# EAGLE library part MICRODB25-BOARD-EDGE (library RPi-Parts)
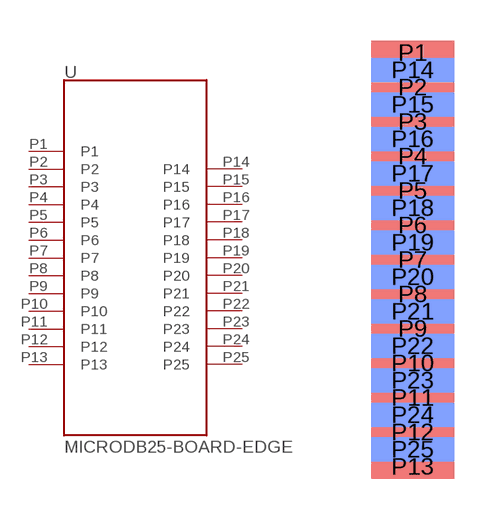
[diagram p5: symbol with the pads of MICRODB25-BOARD-EDGE; footprint MICRODB25-BOARD-EDGE]

Designator prefix -

## MICRODB25-BOARD-EDGE  [MICRODB25-BOARD-EDGE]
P1  P1
P2  P2
P3  P3
P4  P4
P5  P5
P6  P6
P7  P7
P8  P8
P9  P9
P10  P10
P11  P11
P12  P12
P13  P13
P14  P14
P15  P15
P16  P16
P17  P17
P18  P18
P19  P19
P20  P20
P21  P21
P22  P22
P23  P23
P24  P24
P25  P25

## Footprint MICRODB25-BOARD-EDGE (pad centres in mm)
smd 3.048 x 0.889: P1 0,7.62; P2 0,6.35; P3 0,5.08; P4 0,3.81; P5 0,2.54; P6 0,1.27; P7 0,0; P8 0,-1.27; P9 0,-2.54; P10 0,-3.81; P11 0,-5.08; P12 0,-6.35; P13 0,-7.62
smd 3.048 x 0.889 bottom: P14 0,6.985; P15 0,5.715; P16 0,4.445; P17 0,3.175; P18 0,1.905; P19 0,0.635; P20 0,-0.635; P21 0,-1.905; P22 0,-3.175; P23 0,-4.445; P24 0,-5.715; P25 0,-6.985